# EAGLE library part PCF85063AT_AAZ (library PCF85063AT_AAZ)
Real Time Clock Low Power Real time clocks Source: Datasheet <http://www.nxp.com/docs/en/data-sheet/PCF85063A.pdf>
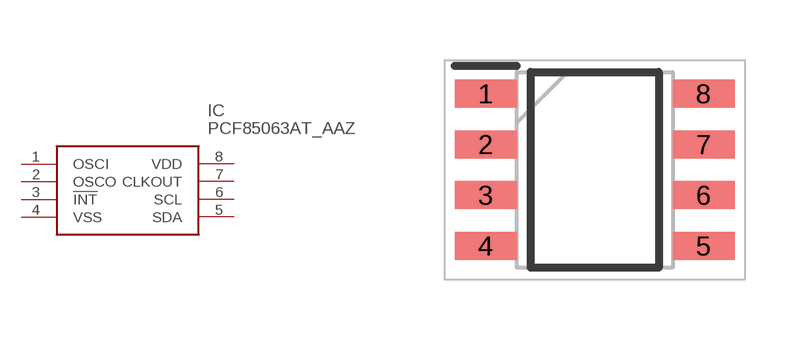
[diagram p0: symbol with the pads of SOIC127P600X175-8N; footprint SOIC127P600X175-8N]

Designator prefix IC

## PCF85063AT_AAZ (Arrow_Part_Number: PCF85063AT/AAZ; Arrow_Price-Stock: https://www.arrow.com/en/products/pcf85063ataaz/nxp-semiconductors?region=nac; Description: Real Time Clock Low Power Real time clocks; Height: 1.75mm; Manufacturer_Name: NXP; Manufacturer_Part_Number: PCF85063AT/AAZ; Mouser_Part_Number: 771-PCF85063AT/AAZ; Mouser_Price-Stock: https://www.mouser.co.uk/ProductDetail/NXP-Semiconductors/PCF85063AT-AAZ?qs=sV%252BQJnSpgu9E5WpV9lmUdg%3D%3D)  [SOIC127P600X175-8N]
1  OSCI
2  OSCO
3  !INT
4  VSS
5  SDA
6  SCL
7  CLKOUT
8  VDD

## Footprint SOIC127P600X175-8N (pad centres in mm)
SO8
smd 1.55 x 0.7: 1 -2.725,1.905; 2 -2.725,0.635; 3 -2.725,-0.635; 4 -2.725,-1.905; 5 2.725,-1.905; 6 2.725,-0.635; 7 2.725,0.635; 8 2.725,1.905